# Altium schematic symbol library Agat.SchLib: 61 symbols
Pins are listed as number, name and electrical type; pins without a type are passive.

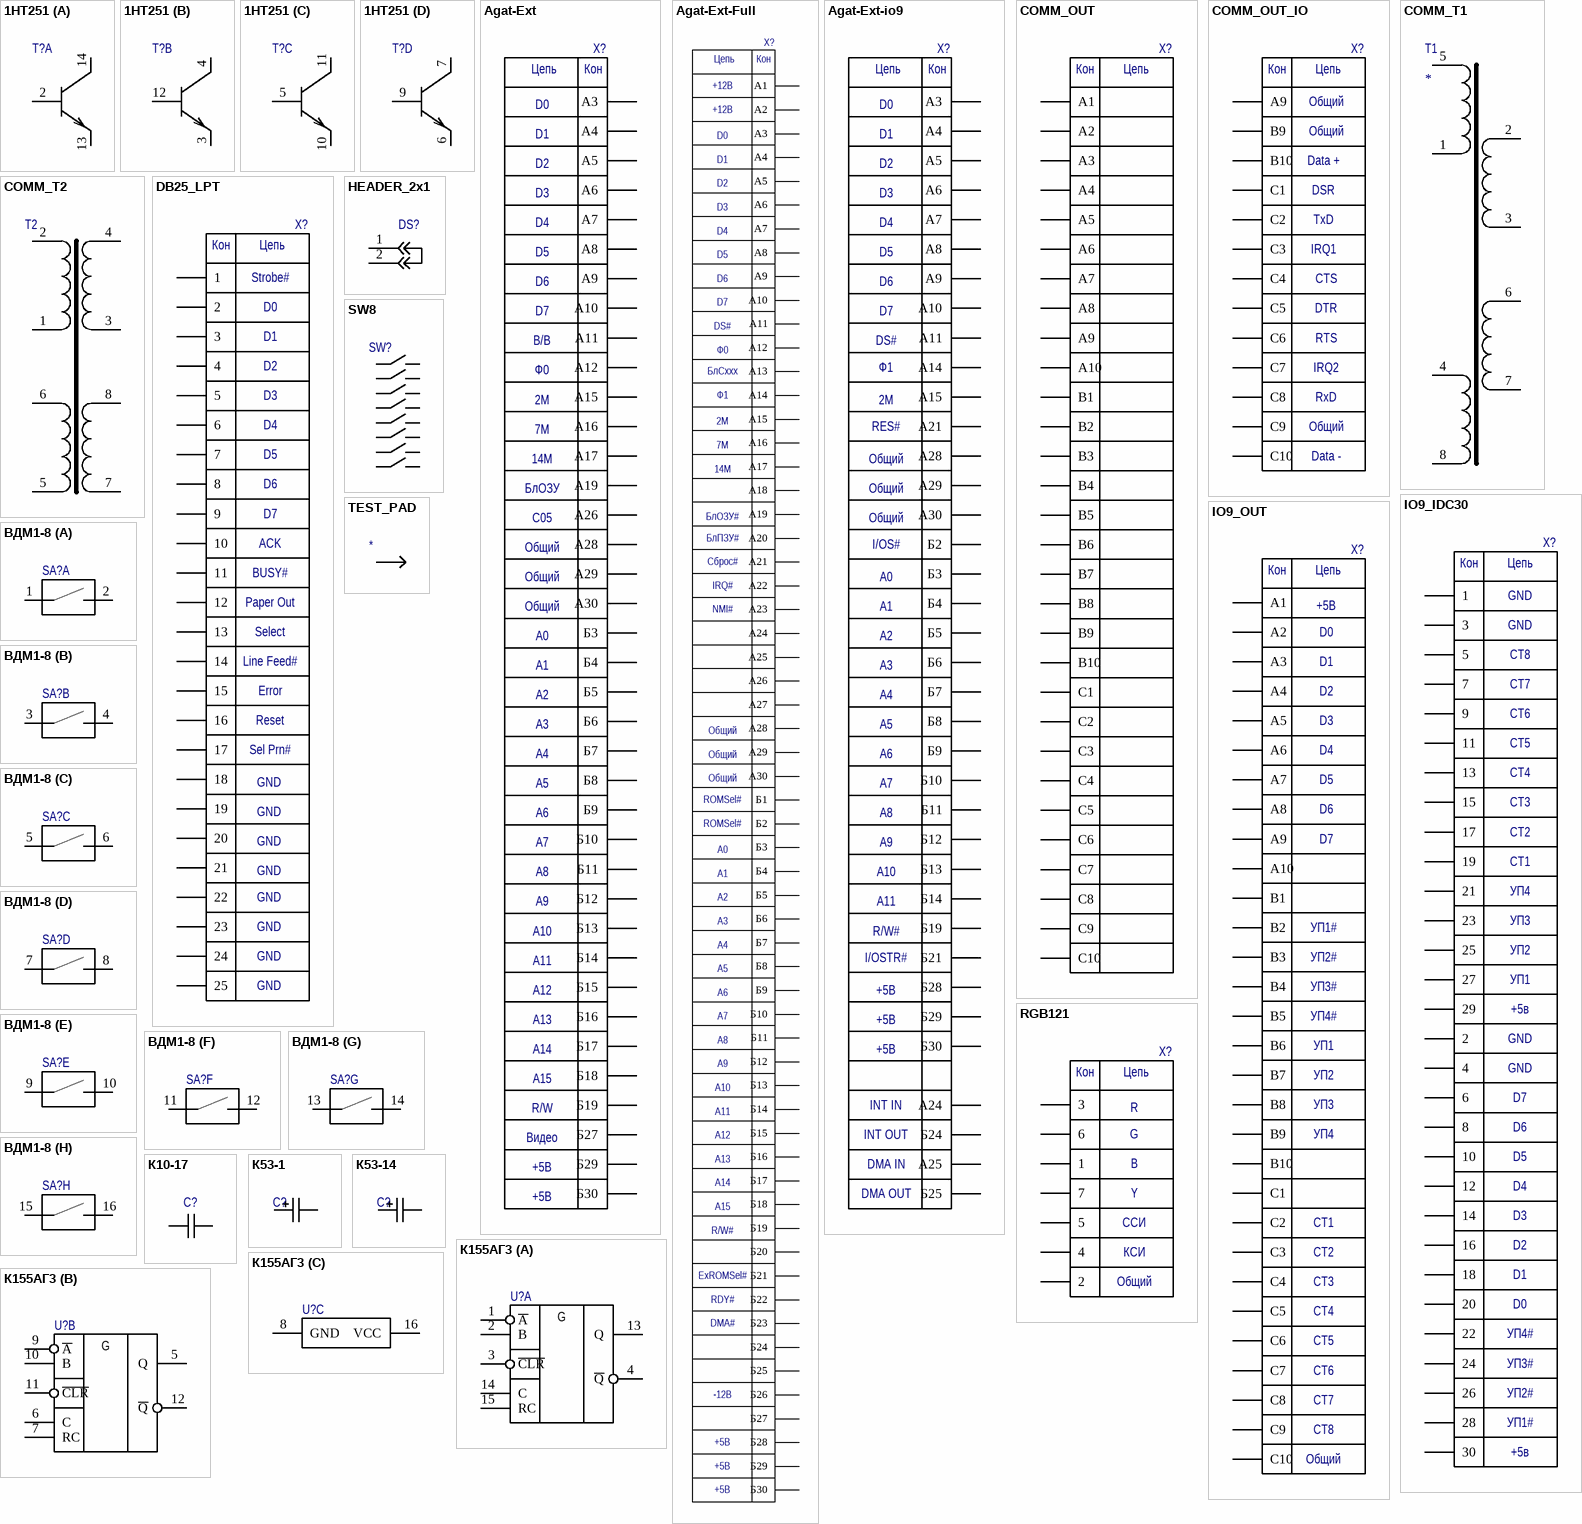
[diagram p0: symbols 1НТ251 to К155АГ3]

## 1НТ251
designator T?
footprint SOP125P1150X265-14N (SOP, 14-Leads, Body 10,00x6,00mm, Pitch 1,25mm, IPC Medium Density)
part A pins: 2 B, 13 E, 14 C
part B pins: 3 E, 4 C, 12 B
part C pins: 5 B, 10 E, 11 C
part D pins: 6 E, 7 C, 9 B

## Agat-Ext
designator X?
footprint AGAT_EXT
pins: A3, A4, A5, A6, A7, A8, A9, A10, A11, A12, A15, A16, A17, A19, A26, A28, A29, A30, B3 Б3, B4 Б4, B5 Б5, B6 Б6, B7 Б7, B8 Б8, B9 Б9, B10 Б10, B11 Б11, B12 Б12, B13 Б13, B14 Б14, B15 Б15, B16 Б16, B17 Б17, B18 Б18, B19 Б19, B27 Б27, B29 Б29, B30 Б30
text: Цепь; Кон; D0; D1; D2; D3; D4; D5; D6; D7; В/В; Ф0; 2М; 7М; 14М; БлОЗУ; C05; Общий; A0; A1; A2; A13; A14; R/W; Видео; +5В

## Agat-Ext-Full
designator X?
footprint AGAT_EXT
pins: A1, A2, A3, A4, A5, A6, A7, A8, A9, A10, A11, A12, A13, A14, A15, A16, A17, A18, A19, A20, A21, A22, A23, A24, A25, A26, A27, A28, A29, A30, B1 Б1, B2 Б2, B3 Б3, B4 Б4, B5 Б5, B6 Б6, B7 Б7, B8 Б8, B9 Б9, B10 Б10, B11 Б11, B12 Б12, B13 Б13, B14 Б14, B15 Б15, B16 Б16, B17 Б17, B18 Б18, B19 Б19, B20 Б20, B21 Б21, B22 Б22, B23 Б23, B24 Б24, B25 Б25, B26 Б26, B27 Б27, B28 Б28, B29 Б29, B30 Б30
text: Цепь; Кон; +12В; D0; D1; D2; D3; D4; D5; D6; D7; DS#; Ф0; БлCxxx; Ф1; 2М; 7М; 14М; БлОЗУ#; БлПЗУ#; Сброс#; IRQ#; NMI#; Общий; ROMSel#; A0; R/W#; ExROMSel#; RDY#; DMA#; -12В; +5В

## Agat-Ext-io9
designator X?
footprint AGAT_EXT
pins: A3, A4, A5, A6, A7, A8, A9, A10, A11, A14, A15, A21, A24, A25, A28, A29, A30, B2 Б2, B3 Б3, B4 Б4, B5 Б5, B6 Б6, B7 Б7, B8 Б8, B9 Б9, B10 Б10, B11 Б11, B12 Б12, B13 Б13, B14 Б14, B19 Б19, B21 Б21, B24 Б24, B25 Б25, B28 Б28, B29 Б29, B30 Б30
text: Цепь; Кон; D0; D1; D2; D3; D4; D5; D6; D7; DS#; Ф1; 2М; RES#; Общий; I/OS#; A0; A1; A2; R/W#; I/OSTR#; +5В; INT IN; INT OUT; DMA IN; DMA OUT

## COMM_OUT
designator X?
footprint СНП34-300/27х9,4Р-22-Р
pins: A1, A2, A3, A4, A5, A6, A7, A8, A9, A10, B1, B2, B3, B4, B5, B6, B7, B8, B9, B10, C1, C2, C3, C4, C5, C6, C7, C8, C9, C10
text: Кон; Цепь

## COMM_OUT_IO
designator X?
footprint СНП34-300/27х9,4Р-22-Р
pins: A9, B9, B10, C1, C2, C3, C4, C5, C6, C7, C8, C9, C10
text: Кон; Цепь; Общий; Data +; DSR; TxD; IRQ1; CTS; DTR; RTS; IRQ2; RxD; Data -

## COMM_T1
designator T1
footprint COMM_T
pins: 1, 2, 3, 4, 5, 6, 7, 8

## COMM_T2
designator T2  (value not drawn)
footprint COMM_T
pins: 1, 2, 3, 4, 5, 6, 7, 8

## DB25_LPT
designator X?
footprint DB25
pins: 1, 2, 3, 4, 5, 6, 7, 8, 9, 10, 11, 12, 13, 14, 15, 16, 17, 18, 19, 20, 21, 22, 23, 24, 25
text: Кон; Цепь; Strobe#; D0; D1; D2; D3; D4; D5; D6; D7; ACK; BUSY#; Paper Out; Select; Line Feed#; Error; Reset; Sel Prn#; GND

## HEADER_2x1
designator DS?  (value not drawn)
ManufacturerPartNumber: HEADER_2x1
footprint HEADER_2x1
pins: 1, 2

## IO9_IDC30
designator X?
footprint IDC30
pins: 1, 2, 3, 4, 5, 6, 7, 8, 9, 10, 11, 12, 13, 14, 15, 16, 17, 18, 19, 20, 21, 22, 23, 24, 25, 26, 27, 28, 29, 30
text: Кон; Цепь; GND; CT8; CT7; CT6; CT5; CT4; CT3; CT2; CT1; УП4; УП3; УП2; УП1; +5в; D7; D6; D5; D4; D3; D2; D1; D0; УП4#; УП3#; УП2#; УП1#

## IO9_OUT
designator X?
footprint СНП34-300/27х9,4Р-22-Р
pins: A1, A2, A3, A4, A5, A6, A7, A8, A9, A10, B1, B2, B3, B4, B5, B6, B7, B8, B9, B10, C1, C2, C3, C4, C5, C6, C7, C8, C9, C10
text: Кон; Цепь; +5В; D0; D1; D2; D3; D4; D5; D6; D7; УП1#; УП2#; УП3#; УП4#; УП1; УП2; УП3; УП4; CT1; CT2; CT3; CT4; CT5; CT6; CT7; CT8; Общий

## RGB121
designator X?
footprint RGB_VIDEO
pins: 1, 2, 3, 4, 5, 6, 7
text: Кон; Цепь; R; G; B; Y; ССИ; КСИ; Общий

## SW8
designator SW?  (value not drawn)
ManufacturerPartNumber: *
footprint SW8
pins: 1, 2, 3 1, 4 2, 5 1, 6 2, 7 1, 8 2, 9 1, 10 2, 11 1, 12 2, 13 1, 14 2, 15 1, 16 2

## TEST_PAD
designator *  (value not drawn)
footprint TEST_PAD
pins: 1

## ВДМ1-8
designator SA?
footprint SW8
part A pins: 1, 2
part B pins: 3 1, 4 2
part C pins: 5 1, 6 2
part D pins: 7 1, 8 2
part E pins: 9 1, 10 2
part F pins: 11 1, 12 2
part G pins: 13 1, 14 2
part H pins: 15 1, 16 2

## К10-17
designator C?, comment 0,1  (value not drawn)
К10-17; Value: 0,1
footprint C5
pins: 1, 2

## К53-1
designator C?, comment 0,1  (value not drawn)
К53-14; Value: 0,1
footprint SMD D (Chip Capacitor; Body 3.81 x 2.54 mm (LxW typ))
pins: 1, 2

## К53-14
designator C?, comment 0,1  (value not drawn)
К53-14; Value: 0,1
footprint CP25
footprint CP30
pins: 1, 2

## К155АГ3
designator U?  (value not drawn)
footprint 201.16
part A pins: 1 ~{A}, 2 B, 3 ~{CLR}, 4 ~{Q}, 13 Q, 14 C, 15 RC
part B pins: 5 Q, 6 C, 7 RC, 9 ~{A}, 10 B, 11 ~{CLR}, 12 ~{Q}
part C pins: 8 GND, 16 VCC
part A text: G
part B text: G

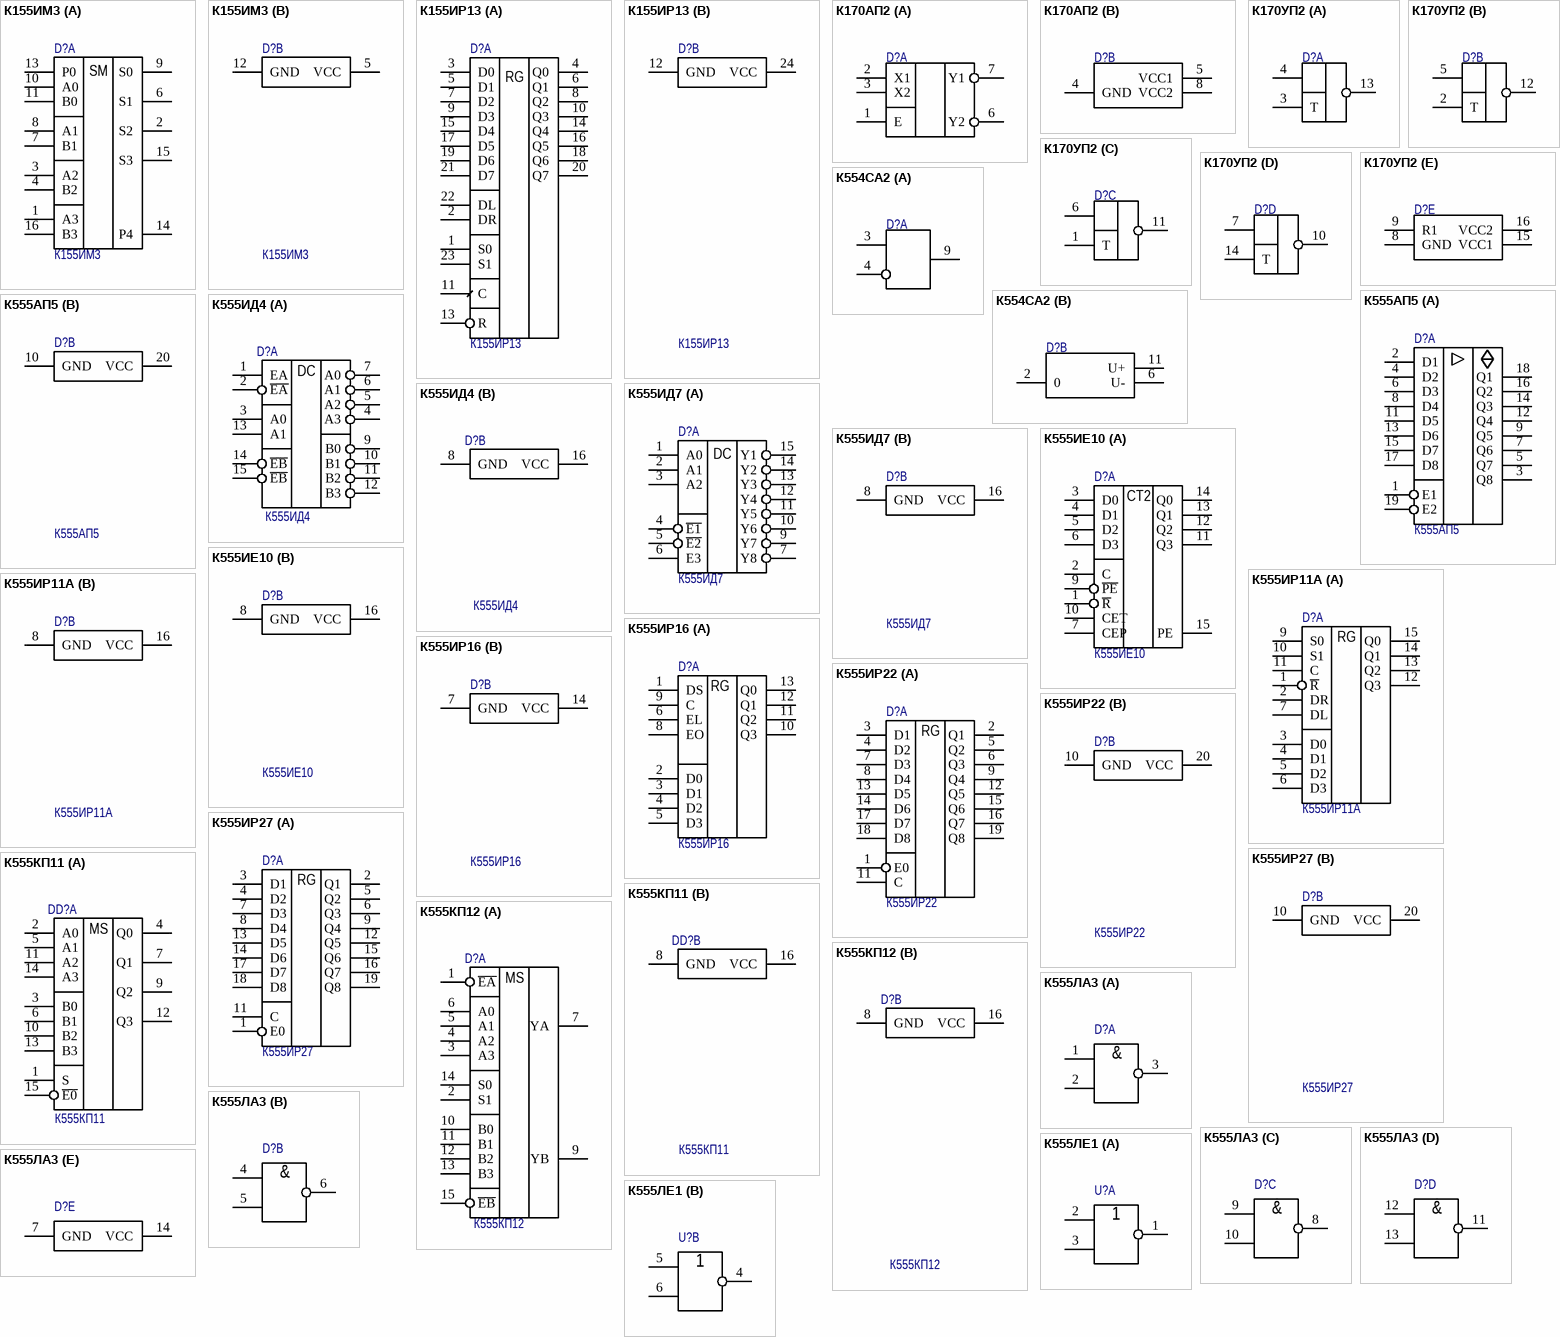
[diagram p1: symbols К155ИМ3 to К555ЛЕ1]

## К155ИМ3
designator D?
ManufacturerPartNumber: SN74ALS138
footprint 201.16
part A pins: 1 A3, 2 S2, 3 A2, 4 B2, 6 S1, 7 B1, 8 A1, 9 S0, 10 A0, 11 B0, 13 P0, 14 P4 (hiz), 15 S3, 16 B3
part B pins: 5 VCC, 12 GND
part A text: SM

## К155ИР13
designator D?
footprint 2120.24
part A pins: 1 S0, 2 DR, 3 D0, 4 Q0, 5 D1, 6 Q1, 7 D2, 8 Q2, 9 D3, 10 Q3, 11 C, 13 R, 14 Q4, 15 D4, 16 Q5, 17 D5, 18 Q6, 19 D6, 20 Q7, 21 D7, 22 DL, 23 S1
part B pins: 12 GND, 24 VCC
part A text: RG

## К170АП2
designator D?  (value not drawn)
footprint 2101.8
part A pins: 1 E, 2 X1, 3 X2, 6 Y2, 7 Y1
part B pins: 4 GND, 5 VCC1, 8 VCC2

## К170УП2
designator D?  (value not drawn)
footprint 201.16
part A pins: 3 T, 4 IN, 13 OUT
part B pins: 2 T, 5 IN, 12 OUT
part C pins: 1 T, 6 IN, 11 OUT
part D pins: 7 IN, 10 OUT, 14 T
part E pins: 8 GND, 9 R1, 15 VCC1, 16 VCC2

## К554СА2
designator D?  (value not drawn)
footprint 201.14
part A pins: 3 IN, 4 ~{IN}, 9 OUT
part B pins: 2 0, 6 U-, 11 U+

## К555АП5
designator D?
footprint 201.20
part A pins: 1 E1, 2 D1, 3 Q8, 4 D2, 5 Q7, 6 D3, 7 Q6, 8 D4, 9 Q5, 11 D5, 12 Q4, 13 D6, 14 Q3, 15 D7, 16 Q2, 17 D8, 18 Q1, 19 E2
part B pins: 10 GND, 20 VCC

## К555ИД4
designator D?
ManufacturerPartNumber: К555ИД4
footprint 201.16
part A pins: 1 EA, 2 ~{EA}, 3 A0, 4 A3, 5 A2, 6 A1, 7 A0, 9 B0, 10 B1, 11 B2, 12 B3, 13 A1, 14 ~{EB}, 15 ~{EB}
part B pins: 8 GND, 16 VCC
part A text: DC

## К555ИД7
designator D?
ManufacturerPartNumber: SN74ALS138
footprint 201.16
part A pins: 1 A0, 2 A1, 3 A2, 4 ~{E1}, 5 ~{E2}, 6 E3, 7 Y8 (hiz), 9 Y7 (hiz), 10 Y6 (hiz), 11 Y5 (hiz), 12 Y4 (hiz), 13 Y3 (hiz), 14 Y2 (hiz), 15 Y1 (hiz)
part B pins: 8 GND, 16 VCC
part A text: DC

## К555ИЕ10
designator D?
ManufacturerPartNumber: КР531ИЕ17
footprint 201.16
part A pins: 1 ~{R}, 2 C, 3 D0, 4 D1, 5 D2, 6 D3, 7 CEP, 9 ~{PE}, 10 CET, 11 Q3, 12 Q2, 13 Q1, 14 Q0, 15 PE
part B pins: 8 GND, 16 VCC
part A text: CT2

## К555ИР11А
designator D?
ManufacturerPartNumber: КР531ИЕ17
footprint 201.16
part A pins: 1 ~{R}, 2 DR, 3 D0, 4 D1, 5 D2, 6 D3, 7 DL, 9 S0, 10 S1, 11 C, 12 Q3, 13 Q2, 14 Q1, 15 Q0
part B pins: 8 GND, 16 VCC
part A text: RG

## К555ИР16
designator D?
ManufacturerPartNumber: КР531ИЕ17
footprint 201.14
part A pins: 1 DS, 2 D0, 3 D1, 4 D2, 5 D3, 6 EL, 8 EO, 9 C, 10 Q3, 11 Q2, 12 Q1, 13 Q0
part B pins: 7 GND, 14 VCC
part A text: RG

## К555ИР22
designator D?
footprint 201.20
part A pins: 1 E0, 2 Q1, 3 D1, 4 D2, 5 Q2, 6 Q3, 7 D3, 8 D4, 9 Q4, 11 C, 12 Q5, 13 D5, 14 D6, 15 Q6, 16 Q7, 17 D7, 18 D8, 19 Q8
part B pins: 10 GND, 20 VCC
part A text: RG

## К555ИР27
designator D?
footprint 201.20
part A pins: 1 E0, 2 Q1, 3 D1, 4 D2, 5 Q2, 6 Q3, 7 D3, 8 D4, 9 Q4, 11 C, 12 Q5, 13 D5, 14 D6, 15 Q6, 16 Q7, 17 D7, 18 D8, 19 Q8
part B pins: 10 GND, 20 VCC
part A text: RG

## К555КП11
designator DD?
ManufacturerPartNumber: К555КП11
footprint 201.16
part A pins: 1 S, 2 A0, 3 B0, 4 Q0, 5 A1, 6 B1, 7 Q1, 9 Q2, 10 B2, 11 A2, 12 Q3, 13 B3, 14 A3, 15 ~{E0}
part B pins: 8 GND, 16 VCC
part A text: MS

## К555КП12
designator D?
ManufacturerPartNumber: К155КП2
footprint 201.16
part A pins: 1 ~{EA}, 2 S1, 3 A3, 4 A2, 5 A1, 6 A0, 7 YA, 9 YB, 10 B0, 11 B1, 12 B2, 13 B3, 14 S0, 15 ~{EB}
part B pins: 8 GND, 16 VCC
part A text: MS

## К555ЛА3
designator D?  (value not drawn)
ManufacturerPartNumber: К555ЛА3
footprint 201.14
part A pins: 1 A, 2 B, 3 ~{O}
part B pins: 4 A, 5 B, 6 ~{O}
part C pins: 8 ~{O}, 9 A, 10 B
part D pins: 11 ~{O}, 12 A, 13 B
part E pins: 7 GND, 14 VCC
part A text: &
part B text: &
part C text: &
part D text: &

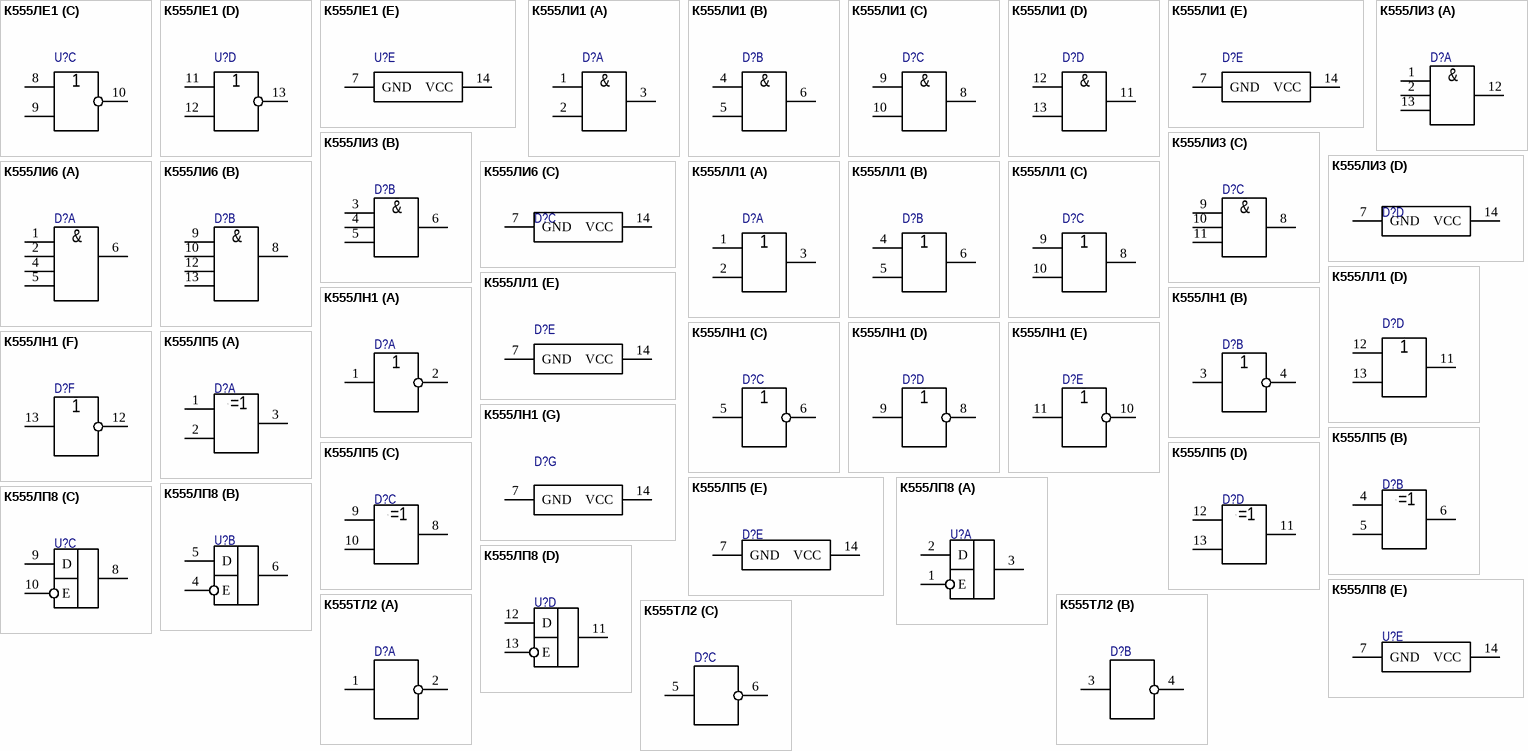
[diagram p2: symbols К555ЛЕ1 to К555ТЛ2]

## К555ЛЕ1
designator U?
ManufacturerPartNumber: К555ЛА3
footprint 201.14
part A pins: 1 ~{O}, 2 A, 3 B
part B pins: 4 ~{O}, 5 A, 6 B
part C pins: 8 A, 9 B, 10 ~{O}
part D pins: 11 A, 12 B, 13 ~{O}
part E pins: 7 GND, 14 VCC

## К555ЛИ1
designator D?
ManufacturerPartNumber: К555ЛИ1
footprint 201.14
part A pins: 1 A, 2 B, 3 O
part B pins: 4 A, 5 B, 6 O
part C pins: 8 O, 9 A, 10 B
part D pins: 11 O, 12 A, 13 B
part E pins: 7 GND, 14 VCC
part A text: &
part B text: &
part C text: &
part D text: &

## К555ЛИ3
designator D?  (value not drawn)
ManufacturerPartNumber: К555ЛА3
footprint 201.14
part A pins: 1 A, 2 B, 12 ~{O}, 13 C
part B pins: 3 A, 4 B, 5 C, 6 ~{O}
part C pins: 8 ~{O}, 9 A, 10 B, 11 C
part D pins: 7 GND, 14 VCC
part A text: &
part B text: &
part C text: &

## К555ЛИ6
designator D?  (value not drawn)
ManufacturerPartNumber: К555ЛА3
footprint 201.14
part A pins: 1 A, 2 B, 4 C, 5 В, 6 ~{O}
part B pins: 8 ~{O}, 9 A, 10 B, 12 C, 13 D
part C pins: 7 GND, 14 VCC
part A text: &
part B text: &

## К555ЛЛ1
designator D?  (value not drawn)
ManufacturerPartNumber: К555ЛА3
footprint 201.14
part A pins: 1 A, 2 B, 3 ~{O}
part B pins: 4 A, 5 B, 6 ~{O}
part C pins: 8 ~{O}, 9 A, 10 B
part D pins: 11 ~{O}, 12 A, 13 B
part E pins: 7 GND, 14 VCC

## К555ЛН1
designator D?
ManufacturerPartNumber: К155ЛН1
footprint 201.14
part A pins: 1 A, 2 ~{O}
part B pins: 3 A, 4 ~{O}
part C pins: 5 A, 6 ~{O}
part D pins: 8 ~{O}, 9 A
part E pins: 10 ~{O}, 11 A
part F pins: 12 ~{O}, 13 A
part G pins: 7 GND, 14 VCC

## К555ЛП5
designator D?
ManufacturerPartNumber: К155ЛП5
footprint 201.14
part A pins: 1 A, 2 B, 3 O
part B pins: 4 A, 5 B, 6 O
part C pins: 8 O, 9 B, 10 A
part D pins: 11 O, 12 B, 13 A
part E pins: 7 GND, 14 VCC
part A text: ·=1; ·
part B text: ·=1; ·
part C text: ·=1; ·
part D text: ·=1; ·

## К555ЛП8
designator U?  (value not drawn)
footprint 201.14
part A pins: 1 E, 2 D, 3 O
part B pins: 4 E, 5 D, 6 O
part C pins: 8 O, 9 D, 10 E
part D pins: 11 O, 12 D, 13 E
part E pins: 7 GND, 14 VCC

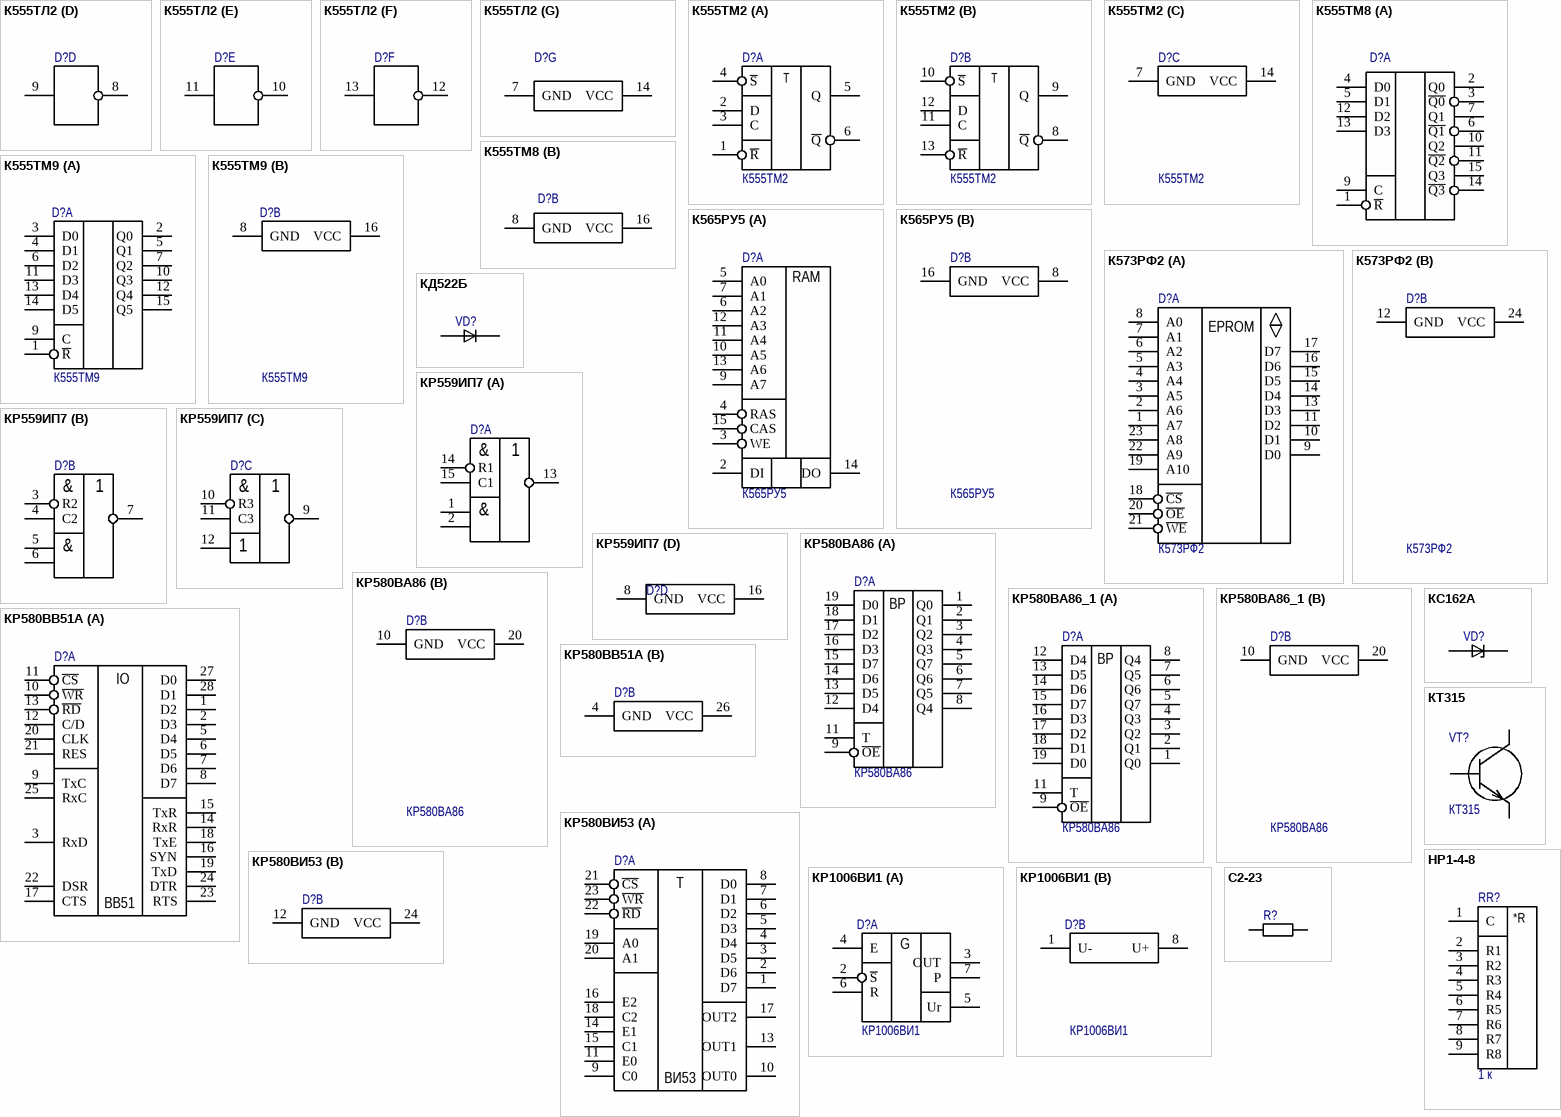
[diagram p3: symbols К555ТЛ2 to С2-23]

## К555ТЛ2
designator D?  (value not drawn)
footprint 201.14
part A pins: 1 A, 2 ~{O}
part B pins: 3 A, 4 ~{O}
part C pins: 5 A, 6 ~{O}
part D pins: 8 ~{O}, 9 A
part E pins: 10 ~{O}, 11 A
part F pins: 12 ~{O}, 13 A
part G pins: 7 GND, 14 VCC

## К555ТМ2
designator D?
footprint 201.14
part A pins: 1 ~{R}, 2 D, 3 C, 4 ~{S}, 5 Q, 6 ~{Q}
part B pins: 8 ~{Q}, 9 Q, 10 ~{S}, 11 C, 12 D, 13 ~{R}
part C pins: 7 GND, 14 VCC
part A text: T
part B text: T

## К555ТМ8
designator D?  (value not drawn)
ManufacturerPartNumber: К555ТМ8
footprint 201.16
part A pins: 1 ~{R}, 2 Q0, 3 ~{Q0}, 4 D0, 5 D1, 6 ~{Q1}, 7 Q1, 9 C, 10 Q2, 11 ~{Q2}, 12 D2, 13 D3, 14 ~{Q3}, 15 Q3
part B pins: 8 GND, 16 VCC

## К555ТМ9
designator D?
ManufacturerPartNumber: SN74ALS174
footprint 201.16
part A pins: 1 ~{R}, 2 Q0, 3 D0, 4 D1, 5 Q1, 6 D2, 7 Q2, 9 C, 10 Q3, 11 D3, 12 Q4, 13 D4, 14 D5, 15 Q5
part B pins: 8 GND, 16 VCC

## К565РУ5
designator D?
ManufacturerPartNumber: К565РУ5
footprint 201.16
part A pins: 2 DI, 3 WE, 4 RAS, 5 A0, 6 A2, 7 A1, 9 A7, 10 A5, 11 A4, 12 A3, 13 A6, 14 DO, 15 CAS
part B pins: 8 VCC, 16 GND
part A text: RAM

## К573РФ2
designator D?
footprint 2120.24 socket
part A pins: 1 A7, 2 A6, 3 A5, 4 A4, 5 A3, 6 A2, 7 A1, 8 A0, 9 D0, 10 D1, 11 D2, 13 D3, 14 D4, 15 D5, 16 D6, 17 D7, 18 ~{CS}, 19 A10, 20 ~{OE}, 21 ~{WE}, 22 A9, 23 A8
part B pins: 12 GND, 24 VCC
part A text: EPROM

## КД522Б
designator VD?
КД522Б
footprint DO-35-10mm
pins: 1, 2

## КР559ИП7
designator D?  (value not drawn)
ManufacturerPartNumber: К555ЛА3
footprint 201.16
part A pins: 1 A, 2 B, 13 ~{O}, 14 R1, 15 C1
part B pins: 3 R2, 4 C2, 5 A, 6 B, 7 ~{O}
part C pins: 9 ~{O}, 10 R3, 11 C3, 12 A
part D pins: 8 GND, 16 VCC
part A text: &
part B text: &
part C text: &

## КР580ВА86
designator D?
footprint 2140.20
part A pins: 1 Q0, 2 Q1, 3 Q2, 4 Q3, 5 Q7, 6 Q6, 7 Q5, 8 Q4, 9 ~{OE}, 11 T, 12 D4, 13 D5, 14 D6, 15 D7, 16 D3, 17 D2, 18 D1, 19 D0
part B pins: 10 GND, 20 VCC
part A text: BP

## КР580ВА86_1
designator D?, comment КР580ВА86
footprint 2140.20
part A pins: 1 Q0, 2 Q1, 3 Q2, 4 Q3, 5 Q7, 6 Q6, 7 Q5, 8 Q4, 9 ~{OE}, 11 T, 12 D4, 13 D5, 14 D6, 15 D7, 16 D3, 17 D2, 18 D1, 19 D0
part B pins: 10 GND, 20 VCC
part A text: BP

## КР580ВВ51А
designator D?  (value not drawn)
footprint 2121.28
part A pins: 1 D2, 2 D3, 3 RxD, 5 D4, 6 D5, 7 D6, 8 D7, 9 TxC, 10 ~{WR}, 11 ~{CS}, 12 C/D, 13 ~{RD}, 14 RxR, 15 TxR, 16 SYN, 17 CTS, 18 TxE, 19 TxD, 20 CLK, 21 RES, 22 DSR, 23 RTS, 24 DTR, 25 RxC, 27 D0, 28 D1
part B pins: 4 GND, 26 VCC
part A text: IO; ВВ51

## КР580ВИ53
designator D?  (value not drawn)
footprint 2120.24
part A pins: 1 D7, 2 D6, 3 D5, 4 D4, 5 D3, 6 D2, 7 D1, 8 D0, 9 C0, 10 OUT0, 11 E0, 13 OUT1, 14 E1, 15 C1, 16 E2, 17 OUT2, 18 C2, 19 A0, 20 A1, 21 ~{CS}, 22 ~{RD}, 23 ~{WR}
part B pins: 12 GND, 24 VCC
part A text: T; ВИ53

## КР1006ВИ1
designator D?
ManufacturerPartNumber: К555ИД4
footprint 2101.8
part A pins: 2 ~{S}, 3 OUT, 4 E, 5 Ur, 6 R, 7 P
part B pins: 1 U-, 8 U+
part A text: G

## КС162А
designator VD?
КС162А
footprint КД-25
pins: 1, 2

## КТ315
designator VT?
footprint КТ315
pins: B, C, E

## НР1-4-8
designator RR?, comment 1 к
ManufacturerPartNumber: НР1-4-8; Value: 1 к
footprint НР1-4-8
pins: 1 С, 2 R1, 3 R2, 4 R3, 5 R4, 6 R5, 7 R6, 8 R7, 9 R8
text: *R

## С2-23
designator R?, comment 1K  (value not drawn)
Резистор; Value: 1K
footprint R10
pins: 1, 2